# EAGLE library part NE555-13 (library jmolterLib)
NE555S-13 Type Osciallator 4.5-16V input 500kHz 8-SOIC
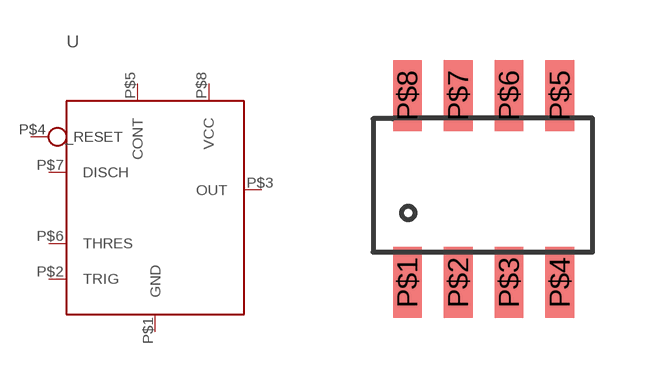
[diagram p6: symbol with the pads of 8-SOIC; footprint 8-SOIC]

Designator prefix -

## NE555-13  [8-SOIC]
P$1  GND
P$2  TRIG
P$3  OUT
P$4  _RESET
P$5  CONT
P$6  THRES
P$7  DISCH
P$8  VCC

## Footprint 8-SOIC (pad centres in mm)
smd 0.72 x 1.78: P$1 0.36,0.89; P$2 1.63,0.89; P$3 2.9,0.89; P$4 4.17,0.89; P$5 4.17,5.57; P$6 2.9,5.57; P$7 1.63,5.57; P$8 0.36,5.57